# Altium footprint library 16Z.PcbLib: 42 footprints (part 1 of 3)
Each footprint in its own frame and in the unit in brackets; x right, y up, seen from the top. Pads: shape width x height; smd on the part's side, far side on the other; paste and mask are expansions set on the pad; w line width, h text height; cw(c..) or ccw(c..) is an arc to the next point about the centre after c.
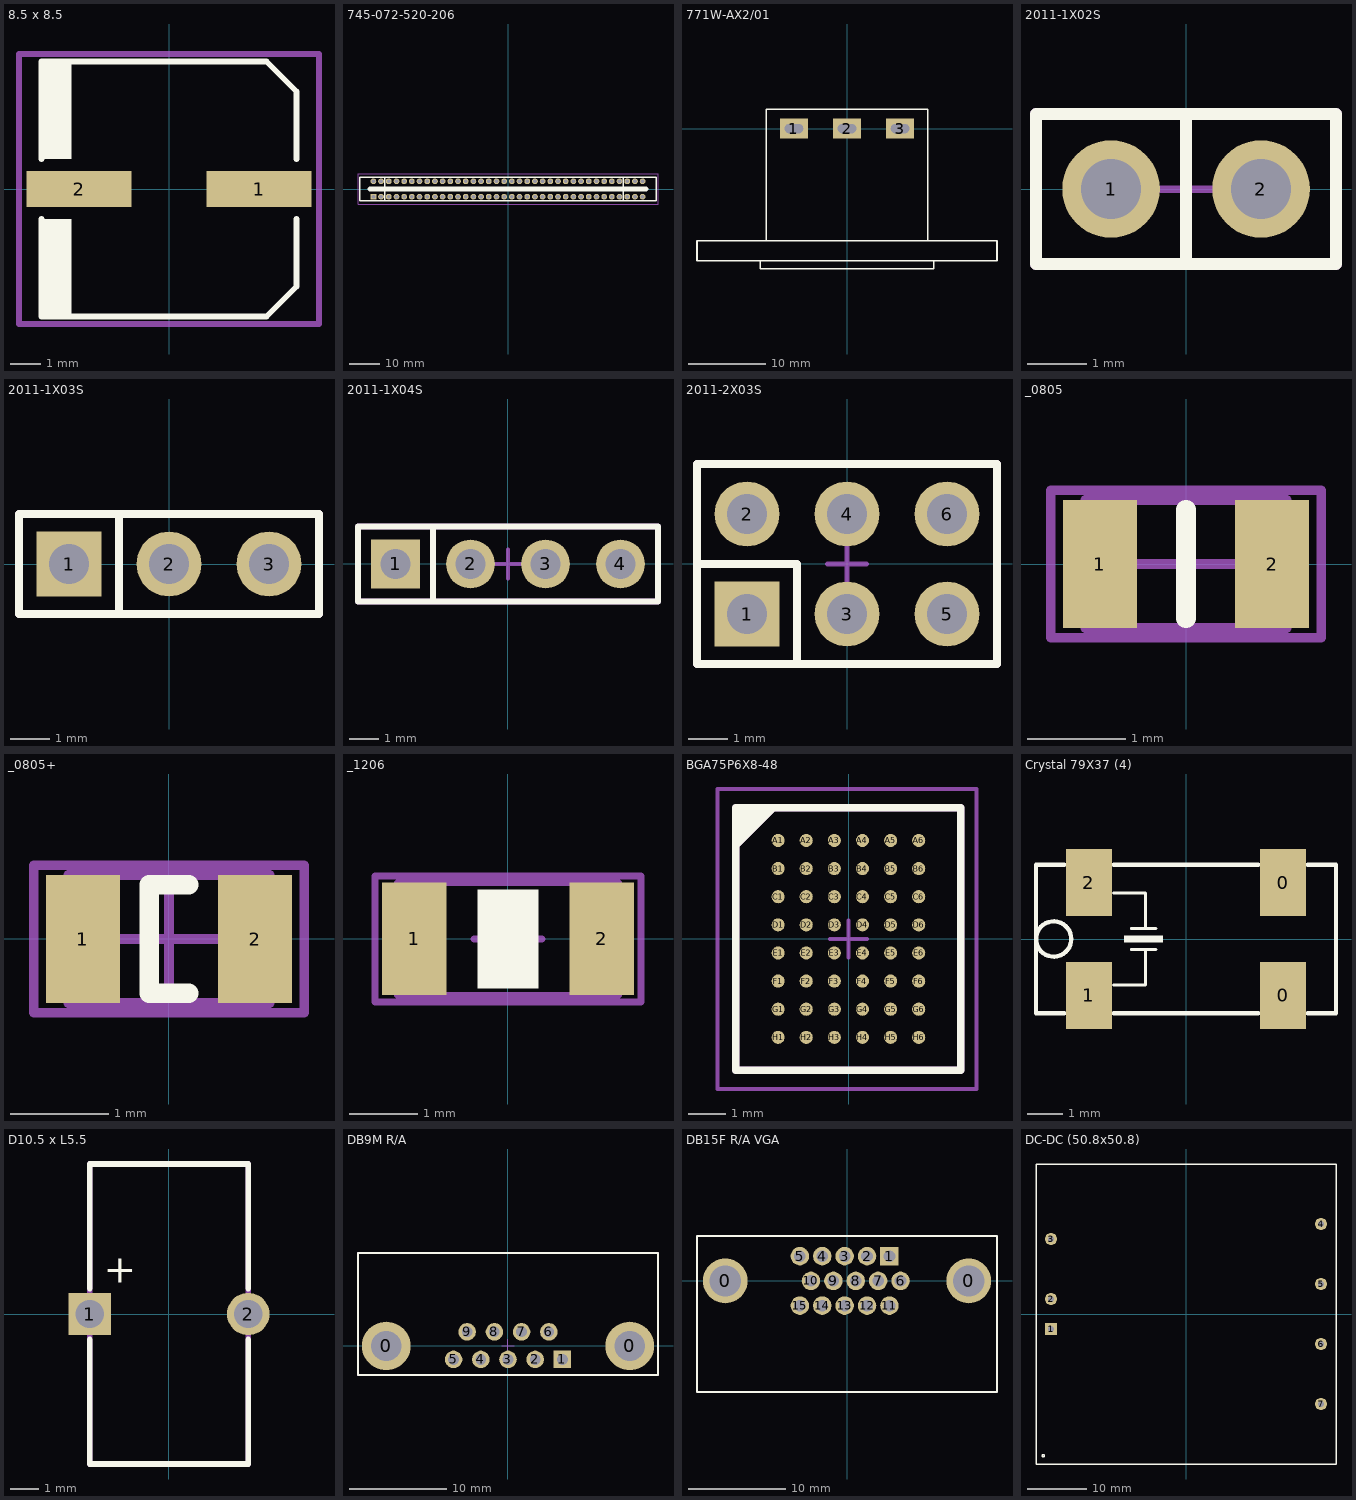
[diagram p0: the footprints below, top view; thin cyan lines are the x and y axes]

## 8.5 x 8.5 [mm]
pads (2):
  rect 3.5x1.2 smd: 1(3,0) 2(-3,0)
Top Overlay:
  rectangle: -4.25,1 -3.25,4.25
  rectangle: -4.25,-4.25 -3.25,-1
  lines w0.2: -4.25,-1 -4.25,-4.25 3.25,-4.25 4.25,-3.25 4.25,-1 ; -4.25,1 -4.25,4.25 3.25,4.25 4.25,3.25 4.25,1
Mechanical 15:
  lines w0.2: -5,-4.5 5,-4.5 5,4.5 -5,4.5 -5,-4.5
3D body: height 7, standoff 1, extent -3,-3 2.988,2.976
3D body: height 1, standoff 0, extent -4,-4 4,4

## 745-072-520-206 [mm] "72-pin board edge slot"
height 16.4
pads (72):
  rect 1.9x1.9 hole 1.25: 1(-44.45,-2.54)
  round 1.9 hole 1.25: 2(-44.45,2.54) 3(-41.91,-2.54) 4(-41.91,2.54) 5(-39.37,-2.54) 6(-39.37,2.54) 7(-36.83,-2.54) 8(-36.83,2.54) 9(-34.29,-2.54) 10(-34.29,2.54) 11(-31.75,-2.54) 12(-31.75,2.54) 13(-29.21,-2.54) 14(-29.21,2.54) 15(-26.67,-2.54) 16(-26.67,2.54) 17(-24.13,-2.54) 18(-24.13,2.54) 19(-21.59,-2.54) 20(-21.59,2.54) 21(-19.05,-2.54) 22(-19.05,2.54) 23(-16.51,-2.54) 24(-16.51,2.54) 25(-13.97,-2.54) 26(-13.97,2.54) 27(-11.43,-2.54) 28(-11.43,2.54) 29(-8.89,-2.54) 30(-8.89,2.54) 31(-6.35,-2.54) 32(-6.35,2.54) 33(-3.81,-2.54) 34(-3.81,2.54) 35(-1.27,-2.54) 36(-1.27,2.54) 37(1.27,-2.54) 38(1.27,2.54) 39(3.81,-2.54) 40(3.81,2.54) 41(6.35,-2.54) 42(6.35,2.54) 43(8.89,-2.54) 44(8.89,2.54) 45(11.43,-2.54) 46(11.43,2.54) 47(13.97,-2.54) 48(13.97,2.54) 49(16.51,-2.54) 50(16.51,2.54) 51(19.05,-2.54) 52(19.05,2.54) 53(21.59,-2.54) 54(21.59,2.54) 55(24.13,-2.54) 56(24.13,2.54) 57(26.67,-2.54) 58(26.67,2.54) 59(29.21,-2.54) 60(29.21,2.54) 61(31.75,-2.54) 62(31.75,2.54) 63(34.29,-2.54) 64(34.29,2.54) 65(36.83,-2.54) 66(36.83,2.54) 67(39.37,-2.54) 68(39.37,2.54) 69(41.91,-2.54) 70(41.91,2.54) 71(44.45,-2.54) 72(44.45,2.54)
Top Overlay:
  lines w0.5: -40.64,-3.81 -40.64,3.81 ; 38.1,-3.81 38.1,3.81 ; -49.022,-3.81 49.022,-3.81 49.022,3.81 -49.022,3.81 -49.022,-3.81
  lines w1.5: -45.72,0 45.72,0
Mechanical 15:
  lines w0.2: -49.53,-5.08 49.53,-5.08 49.53,5.08 -49.53,5.08 -49.53,-5.08
3D body: height 16.4, standoff 0, extent -49.022,-3.81 49.022,3.81

## 771W-AX2/01 [mm] "AC IEC connector"
height 19
pads (3):
  rect 3.6x2.6 hole 1.2 slot 2.4 at 0 deg: 1(-6.9,0) 2(0,0) 3(6.9,0)
Top Overlay:
  lines w0.2: -11.3,-17.2 -11.3,-18.2 11.3,-18.2 11.3,-17.2 ; -10.5,-14.6 -10.5,2.5 10.5,2.5 10.5,-14.6 ; -19.5,-17.2 19.5,-17.2 19.5,-14.6 -19.5,-14.6 -19.5,-17.2
3D body: height 19, standoff 0, extent -19.5,-17.2 19.5,-14.6
3D body: height 17, standoff 1, extent -11.3,-18.2 11.3,-17.2
3D body: height 18, standoff 0, extent -10.5,-14.6 10.5,2.5

## 2011-1X02S [mil] "2011-1X02 Straight Pin Header"
height 334.65
pads (2):
  round 65 hole 40: 1(-50,0) 2(50,0)
Top Overlay:
  lines w8: 0,-50 0,50 ; -100,-50 -100,50 100,50 100,-50 -100,-50
Mechanical 13:
  lines w8: -100,-50 100,-50 100,50 -100,50 -100,-50
Mechanical 15:
  lines w5: -19.68,0 19.68,0 ; 0,-19.68 0,19.68 ; -100,-50 100,-50 100,50 -100,50 -100,-50
3D body: height 334.65, standoff 0, extent -100,-50 100,50

## 2011-1X03S [mil] "2011-1X03 Straight Pin Header"
height 334.65
pads (3):
  rect 65x65 hole 40: 1(-100,0)
  round 65 hole 40: 2(0,0) 3(100,0)
Top Overlay:
  lines w8: -50,-50 -50,50 ; -150,-50 150,-50 150,50 -150,50 -150,-50
Mechanical 13:
  lines w8: -150,-50 -150,50 150,50 150,-50 -150,-50
Mechanical 15:
  lines w5: -19.68,0 19.68,0 ; 0,-19.68 0,19.68 ; -150,-50 -150,50 150,50 150,-50 -150,-50
3D body: height 334.65, standoff 0, extent -150,-50 150,50

## 2011-1X04S [mil] "2011-1X04 Straight Pin Header"
height 334.65
pads (4):
  rect 65x65 hole 40: 1(-150,0)
  round 65 hole 40: 2(-50,0) 3(50,0) 4(150,0)
Top Overlay:
  lines w8: -100,-50 -100,50 ; -200,-50 -200,50 200,50 200,-50 -200,-50
Mechanical 13:
  lines w8: -200,-50 200,-50 200,50 -200,50 -200,-50
Mechanical 15:
  lines w5: -19.69,0 19.68,0 ; 0,-19.68 0,19.69 ; -200,-50 200,-50 200,50 -200,50 -200,-50
3D body: height 334.65, standoff 0, extent -200,-50 200,50

## 2011-2X03S [mil] "2011-2X03 Straight Pin Header"
height 334.65
pads (6):
  rect 65x65 hole 40: 1(-100,-50)
  round 65 hole 40: 2(-100,50) 3(0,-50) 4(0,50) 5(100,-50) 6(100,50)
Top Overlay:
  lines w8: -150,0 -50,0 -50,-100 ; -150,-100 -150,100 150,100 150,-100 -150,-100
Mechanical 13:
  lines w8: -150,-100 -150,100 150,100 150,-100 -150,-100
Mechanical 15:
  lines w5: -19.68,0 19.69,0 ; 0,-19.68 0,19.69 ; -150,-100 -150,100 150,100 150,-100 -150,-100
3D body: height 334.65, standoff 0, extent -150,-100 150,100

## _0805 [mm]
height 0.85
pads (2):
  rect 0.75x1.3 smd: 1(-0.875,0) 2(0.875,0)
Top Overlay:
  lines w0.2: 0,-0.55 0,0.55
Mechanical 13:
  lines w0.1: -1.025,-0.65 -1.025,0.65 1.025,0.65 1.025,-0.65 -1.025,-0.65
Mechanical 15:
  lines w0.1: -0.5,0 0.5,0 ; 0,-0.5 0,0.5 ; -1.375,-0.75 -1.375,0.75 1.375,0.75 1.375,-0.75 -1.375,-0.75
3D body: height 0.85, standoff 0, extent -1.025,-0.65 1.025,0.65

## _0805+ [mm]
height 0.85
pads (2):
  rect 0.75x1.3 smd: 1(-0.875,0) 2(0.875,0)
Top Overlay:
  lines w0.2: 0.2,-0.55 -0.2,-0.55 -0.2,0.55 0.2,0.55
Mechanical 13:
  lines w0.1: -1.025,-0.65 1.025,-0.65 1.025,0.65 -1.025,0.65 -1.025,-0.65
Mechanical 15:
  lines w0.1: -0.5,0 0.5,0 ; 0,-0.5 0,0.5 ; -1.375,-0.75 1.375,-0.75 1.375,0.75 -1.375,0.75 -1.375,-0.75
3D body: height 0.85, standoff 0, extent -1.025,-0.65 1.025,0.65

## _1206 [mm]
height 1
pads (2):
  rect 0.95x1.65 smd: 1(-1.375,0) 2(1.375,0)
Top Overlay:
  rectangle: -0.45,-0.725 0.45,0.725
Mechanical 13:
  lines w0.1: -1.625,-0.825 1.625,-0.825 1.625,0.825 -1.625,0.825 -1.625,-0.825
Mechanical 15:
  lines w0.1: -0.5,0 0.5,0 ; 0,-0.5 0,0.5 ; -1.95,-0.925 1.95,-0.925 1.95,0.925 -1.95,0.925 -1.95,-0.925
3D body: height 1, standoff 0, extent -1.625,-0.825 1.625,0.825

## BGA75P6X8-48 [mm]
pads (48):
  round 0.35 smd: A1(-1.887,2.627) A2(-1.137,2.627) A3(-0.387,2.627) A4(0.363,2.627) A5(1.113,2.627) A6(1.863,2.627) B1(-1.887,1.877) B2(-1.137,1.877) B3(-0.387,1.877) B4(0.363,1.877) B5(1.113,1.877) B6(1.863,1.877) C1(-1.887,1.127) C2(-1.137,1.127) C3(-0.387,1.127) C4(0.363,1.127) C5(1.113,1.127) C6(1.863,1.127) D1(-1.887,0.377) D2(-1.137,0.377) D3(-0.387,0.377) D4(0.363,0.377) D5(1.113,0.377) D6(1.863,0.377) E1(-1.887,-0.373) E2(-1.137,-0.373) E3(-0.387,-0.373) E4(0.363,-0.373) E5(1.113,-0.373) E6(1.863,-0.373) F1(-1.887,-1.123) F2(-1.137,-1.123) F3(-0.387,-1.123) F4(0.363,-1.123) F5(1.113,-1.123) F6(1.863,-1.123) G1(-1.887,-1.873) G2(-1.137,-1.873) G3(-0.387,-1.873) G4(0.363,-1.873) G5(1.113,-1.873) G6(1.863,-1.873) H1(-1.887,-2.623) H2(-1.137,-2.623) H3(-0.387,-2.623) H4(0.363,-2.623) H5(1.113,-2.623) H6(1.863,-2.623)
Top Overlay:
  lines w0.2: -3.012,2.502 -2.012,3.502 ; -3.012,2.702 -2.212,3.502 ; -3.012,2.902 -2.412,3.502 ; -3.012,3.102 -2.612,3.502 ; -3.012,3.302 -2.812,3.502 ; -3.012,-3.498 2.988,-3.498 2.988,3.502 -3.012,3.502 -3.012,-3.498
Mechanical 11:
  lines w0.001: -3.012,-3.498 2.988,-3.498 2.988,3.502 -3.012,3.502 -3.012,-3.498
Mechanical 13:
  lines w0.2: -3.012,2.502 -2.012,3.502 ; -3.012,2.702 -2.212,3.502 ; -3.012,2.902 -2.412,3.502 ; -3.012,3.102 -2.612,3.502 ; -3.012,3.302 -2.812,3.502 ; -3.012,-3.498 2.988,-3.498 2.988,3.502 -3.012,3.502 -3.012,-3.498
Mechanical 15:
  lines w0.1: -0.512,0.002 0.488,0.002 ; -0.012,-0.498 -0.012,0.502 ; -3.5,-4 3.4,-4 3.4,4 -3.5,4 -3.5,-4
3D body: height 0.8, standoff 0, extent -3,-3.5 3,3.5

## Crystal 79X37 (4) [mm] "Crystal 7.9 x 3.7 mm, 4 pins (often used for 32.768kHz)"
height 2.4
pads (4):
  rect 1.3x1.9 smd: 0(2.75,-1.6) 0(2.75,1.6) 1(-2.75,-1.6) 2(-2.75,1.6)
Top Overlay:
  circle w0.125: c-3.75,0 r0.5
  rectangle: -1.75,-0.1 -0.65,0.1
  lines w0.08: -2.05,-1.3 -1.15,-1.3 -1.15,-0.3 ; -2.05,1.3 -1.15,1.3 -1.15,0.3 ; -1.55,-0.3 -0.85,-0.3 ; -1.55,0.3 -0.85,0.3
  lines w0.127: -3.45,-2.1 -4.25,-2.1 -4.25,2.1 -3.45,2.1 ; -2.05,-2.1 2.05,-2.1 ; -2.05,2.1 2.05,2.1 ; 3.45,-2.1 4.25,-2.1 4.25,2.1 3.45,2.1
3D body: height 2.4, standoff 0, extent -4.25,-2.1 4.25,2.1

## D10.5 x L5.5 [mm] "Cylindric capacitor"
height 13
pads (2):
  rect 1.5x1.5 hole 1: 1(-2.8,0)
  round 1.5 hole 1: 2(2.8,0)
Top Overlay:
  lines w0.2: -2.8,-0.9 -2.8,-5.3 2.8,-5.3 2.8,-0.9 ; -2.8,0.9 -2.8,5.3 2.8,5.3 2.8,0.9
  text "+" at -2.3,1.1 h1
Mechanical 15:
  lines w0.2: -2.8,-5.3 2.8,-5.3 2.8,5.3 -2.8,5.3 -2.8,-5.3
3D body: height 11.76, standoff 1.2, extent -2.8,-5.19 2.8,5.389
3D body: height 6.8, standoff 0, extent 2.4,-0.4 3.197,0.398
3D body: height 6.8, standoff 0, extent -3.2,-0.4 -2.403,0.398

## DB9M R/A [mm] "9 Pin Male D-Sub Right Angle, Through hole Mounting"
height 12.55
pads (11):
  round 5 hole 3.1: 0(-12.5,-0.03) 0(12.5,-0.03)
  rect 1.8x1.8 hole 1.1: 1(5.588,-1.42)
  round 1.8 hole 1.1: 2(2.794,-1.42) 3(0,-1.42) 4(-2.794,-1.42) 5(-5.588,-1.42) 6(4.191,1.42) 7(1.397,1.42) 8(-1.397,1.42) 9(-4.191,1.42)
Top Overlay:
  lines w0.203: -15.4,-3 15.4,-3 15.4,9.49 -15.4,9.49 -15.4,-3
Mechanical 15:
  lines w0.203: -15.4,-3 -15.4,9.49 15.4,9.49 15.4,-3 -15.4,-3
Mechanical 16:
  lines w0.127: -0.635,0 0.635,0 ; 0,-0.635 0,0.635 ; -15.4,-3 15.4,-3 15.4,9.49 -15.4,9.49 -15.4,-3
3D body: height 12.55, standoff 0, extent -15.4,-3 15.4,9.49

## DB15F R/A VGA [mm] "DB15F-VGA connector (TE 1734530)"
height 12.5
pads (17):
  round 4.6 hole 3.2: 0(-12.5,0) 0(12.5,0)
  rect 1.9x1.9 hole 1.2: 1(4.36,2.54)
  round 1.9 hole 1.2: 2(2.06,2.54) 3(-0.24,2.54) 4(-2.54,2.54) 5(-4.84,2.54) 6(5.5,0) 7(3.2,0) 8(0.9,0) 9(-1.4,0) 10(-3.7,0) 11(4.36,-2.54) 12(2.06,-2.54) 13(-0.24,-2.54) 14(-2.54,-2.54) 15(-4.84,-2.54)
Top Overlay:
  lines w0.2: -15.4,-11.4 -15.4,4.6 15.4,4.6 15.4,-11.4 -15.4,-11.4
3D body: height 12.5, standoff 0, extent -15.4,-11.4 15.4,4.6
3D body: height 8, standoff 3, extent -7,-17.4 7,-11.3

## DC-DC (50.8x50.8) [mil] "DC-DC converter"
height 393.7
pads (7):
  rect 80x80 hole 41: 1(-900,-100)
  round 80 hole 41: 2(-900,100) 3(-900,500) 4(900,600) 5(900,200) 6(900,-200) 7(900,-600)
Top Overlay:
  circle w10: c-951.95,-944.88 r7.07
  lines w10: -1000,-1000 -1000,1000 1000,1000 1000,-1000 -1000,-1000
3D body: height 393.7, standoff 3.94, extent -1000,-1000 1000,1000